# Altium integrated library Кнопки.IntLib: 8 symbols
Pins are listed as number, name and electrical type; pins without a type are passive.

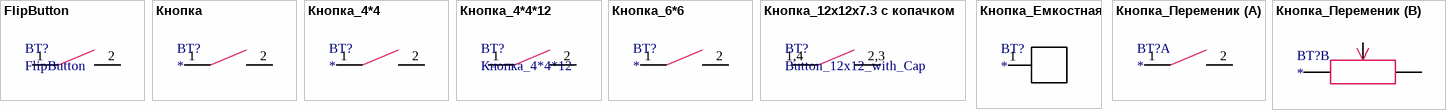
[diagram p0: symbols FlipButton to Кнопка_Переменик]

## FlipButton
designator BT?
footprint FlipButton12mm
pins: 1, 2

## Кнопка
designator BT?
pins: 1, 2

## Кнопка_4*4
designator BT?
footprint Button_4x4
pins: 1, 2

## Кнопка_4*4*12
designator BT?
footprint Button_6x6x12
footprint TL1105B
pins: 1, 2

## Кнопка_6*6
designator BT?
footprint Button_6x6
footprint BUTTON_6x6_r
pins: 1, 2

## Кнопка_12x12x7.3 с копачком
designator BT?, comment Button_12x12_with_Cap
footprint Button_12x12x7_3_Cap
pins: 1,4 1, 2,3 2

## Кнопка_Емкостная
designator BT?
footprint SensorButton
pins: 1

## Кнопка_Переменик
designator BT?
footprint ButtonPot
part A pins: 1, 2
part B pins: 1, 3, 4